# Altium footprint library inductor_footprint.PcbLib: 1 footprints
Each footprint in its own frame and in the unit in brackets; x right, y up, seen from the top. Pads: shape width x height; smd on the part's side, far side on the other; paste and mask are expansions set on the pad; w line width, h text height; cw(c..) or ccw(c..) is an arc to the next point about the centre after c.
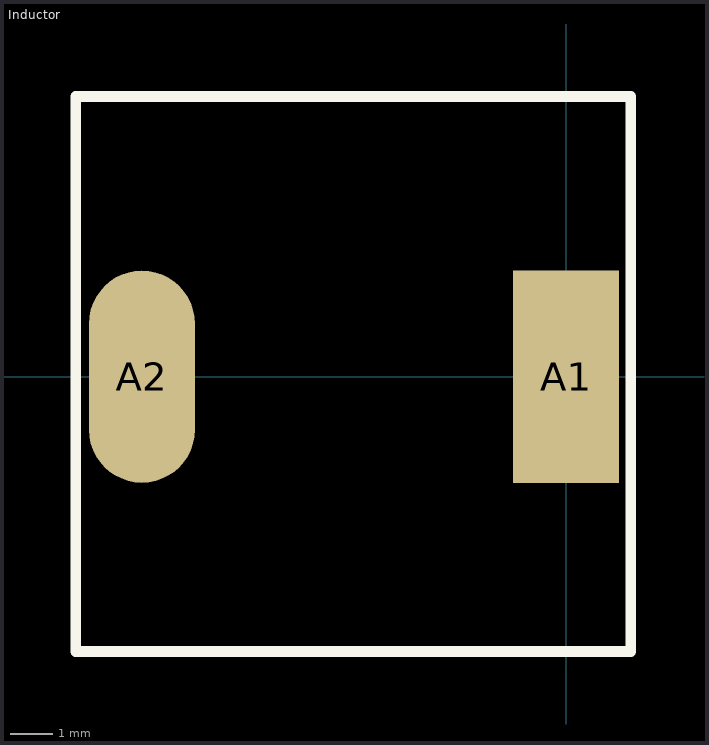
[diagram p0: the footprint, top view; thin cyan lines are the x and y axes]

## Inductor [mm]
pads (2):
  rect 2.5x5 smd: A1(0,0)
  oval 2.5x5 smd: A2(-10,0)
Top Overlay:
  lines w0.254: -11.557,-6.477 -11.557,6.604 1.524,6.604 1.524,0 1.524,-6.477 -11.557,-6.477